# EAGLE library part ADS7956 (library BMS Lbr)
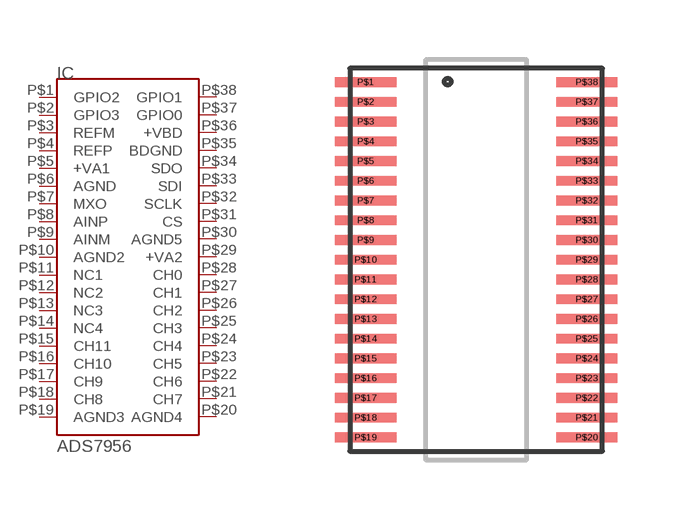
[diagram p2: symbol with the pads of TSSOP-38; footprint TSSOP-38]

Designator prefix IC

## ADS7956  [TSSOP-38]
P$1  GPIO2
P$2  GPIO3
P$3  REFM
P$4  REFP
P$5  +VA1
P$6  AGND
P$7  MXO
P$8  AINP
P$9  AINM
P$10  AGND2
P$11  NC1
P$12  NC2
P$13  NC3
P$14  NC4
P$15  CH11
P$16  CH10
P$17  CH9
P$18  CH8
P$19  AGND3
P$20  AGND4
P$21  CH7
P$22  CH6
P$23  CH5
P$24  CH4
P$25  CH3
P$26  CH2
P$27  CH1
P$28  CH0
P$29  +VA2
P$30  AGND5
P$31  CS
P$32  SCLK
P$33  SDI
P$34  SDO
P$35  BDGND
P$36  +VBD
P$37  GPIO0
P$38  GPIO1

## Footprint TSSOP-38 (pad centres in mm)
smd 1.55 x 0.25: P$1 -2.8,4.5; P$2 -2.8,4; P$3 -2.8,3.5; P$4 -2.8,3; P$5 -2.8,2.5; P$6 -2.8,2; P$7 -2.8,1.5; P$8 -2.8,1; P$9 -2.8,0.5; P$10 -2.8,0; P$11 -2.8,-0.5; P$12 -2.8,-1; P$13 -2.8,-1.5; P$14 -2.8,-2; P$15 -2.8,-2.5; P$16 -2.8,-3; P$17 -2.8,-3.5; P$18 -2.8,-4; P$19 -2.8,-4.5; P$20 2.8,-4.5; P$21 2.8,-4; P$22 2.8,-3.5; P$23 2.8,-3; P$24 2.8,-2.5; P$25 2.8,-2; P$26 2.8,-1.5; P$27 2.8,-1; P$28 2.8,-0.5; P$29 2.8,0; P$30 2.8,0.5; P$31 2.8,1; P$32 2.8,1.5; P$33 2.8,2; P$34 2.8,2.5; P$35 2.8,3; P$36 2.8,3.5; P$37 2.8,4; P$38 2.8,4.5